# Altium schematic symbol library Components - 14.03.25 - 18.59.SchLib: 1 symbol
Pins are listed as number, name and electrical type; pins without a type are passive.

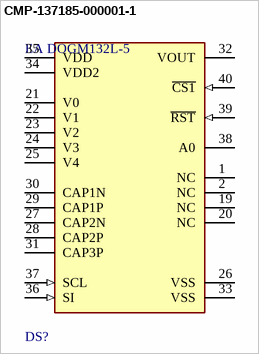
[diagram p0: symbol CMP-137185-000001-1]

## CMP-137185-000001-1
designator DS?, comment EA DOGM132L-5
LCD MOD GRAPH 132X32 Y/G; Supply Current: 140uA; Background Color: Green; Resolution (height): 32pixel; Fluid Type: STN POSITIVE; Interface: SPI; Viewing Area (width): 51mm; Resolution (width): 132pixel; Viewing Area (height): 15mm; RoHS Compliant: No; Height: 27.94mm; Min Operating Temperature: -20°C; Packaging: Bulk; Max Operating Temperature: 70°C; Nominal Supply Current: 140uA; Series: EA DOGM; Width: 55mm
footprint FP-EA_DOGM132L-5-MFG
pins: 1 NC, 2 NC, 19 NC, 20 NC, 21 V0, 22 V1, 23 V2, 24 V3, 25 V4, 26 VSS (power), 27 CAP2N, 28 CAP2P, 29 CAP1P, 30 CAP1N, 31 CAP3P, 32 VOUT (power), 33 VSS (power), 34 VDD2 (power), 35 VDD (power), 36 SI (in), 37 SCL (in), 38 A0, 39 ~{RST} (in), 40 ~{CS1} (in)